# EAGLE library part SMT_64PIN_R (library Breakout_Boards)
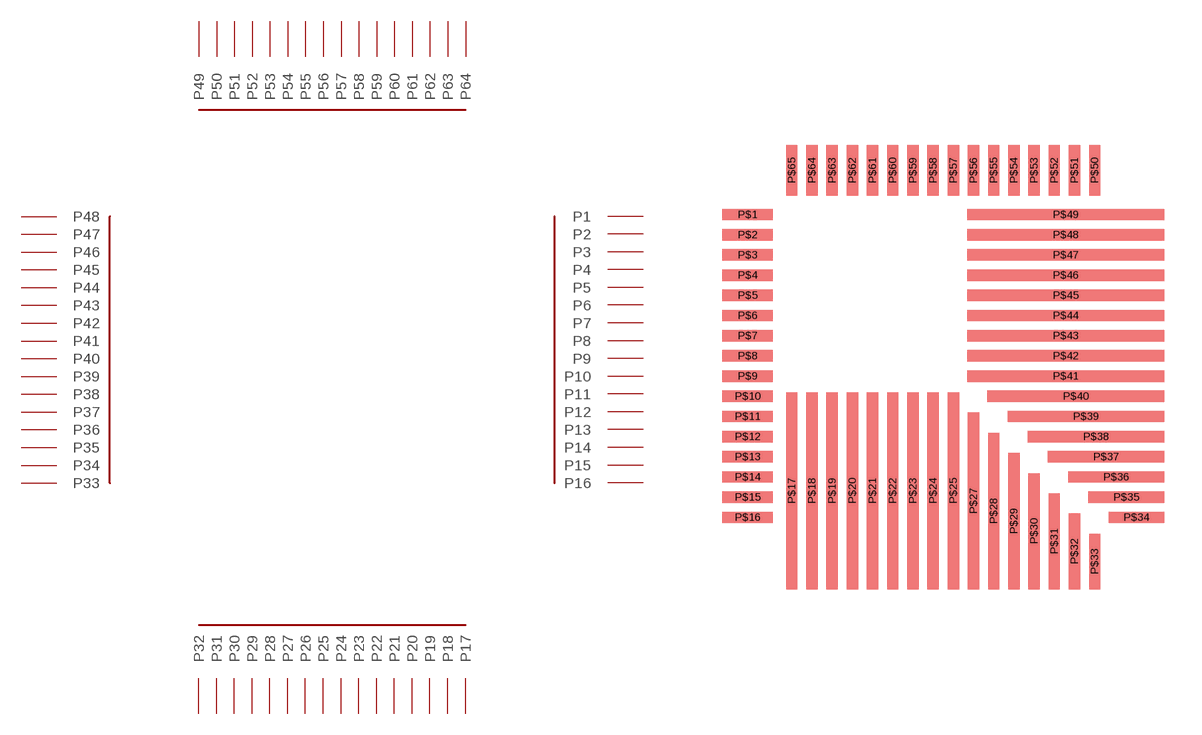
[diagram p3: symbol with the pads of TQFP_SMT_08MM; footprint TQFP_SMT_08MM]

Designator prefix -

## SMT_64PIN_R  [TQFP_SMT_08MM]
P$1  P1
P$2  P2
P$3  P3
P$4  P4
P$5  P5
P$6  P6
P$7  P7
P$8  P8
P$9  P9
P$10  P10
P$11  P11
P$12  P12
P$13  P13
P$14  P14
P$15  P15
P$16  P16
P$17  P17
P$18  P18
P$19  P19
P$20  P20
P$21  P21
P$22  P22
P$23  P23
P$24  P24
P$25  P25
P$27  P26
P$28  P27
P$29  P28
P$30  P29
P$31  P30
P$32  P31
P$33  P32
P$34  P33
P$35  P34
P$36  P35
P$37  P36
P$38  P37
P$39  P38
P$40  P39
P$41  P40
P$42  P41
P$43  P42
P$44  P43
P$45  P44
P$46  P45
P$47  P46
P$48  P47
P$49  P48
P$50  P49
P$51  P50
P$52  P51
P$53  P52
P$54  P53
P$55  P54
P$56  P55
P$57  P56
P$58  P57
P$59  P58
P$60  P59
P$61  P60
P$62  P61
P$63  P62
P$64  P63
P$65  P64

## Footprint TQFP_SMT_08MM (pad centres in mm)
smd 2 x 0.45: P$1 -7.6,6; P$2 -7.6,5.2; P$3 -7.6,4.4; P$4 -7.6,3.6; P$5 -7.6,2.8; P$6 -7.6,2; P$7 -7.6,1.2; P$8 -7.6,0.4; P$9 -7.6,-0.4; P$10 -7.6,-1.2; P$11 -7.6,-2; P$12 -7.6,-2.8; P$13 -7.6,-3.6; P$14 -7.6,-4.4; P$15 -7.6,-5.2; P$16 -7.6,-6
smd 0.45 x 7.8: P$17 -5.85,-4.95; P$18 -5.05,-4.95; P$19 -4.25,-4.95; P$20 -3.45,-4.95; P$21 -2.65,-4.95; P$22 -1.85,-4.95; P$23 -1.05,-4.95; P$24 -0.25,-4.95; P$25 0.55,-4.95
smd 0.45 x 7: P$27 1.35,-5.35
smd 0.45 x 6.2: P$28 2.15,-5.75
smd 0.45 x 5.4: P$29 2.95,-6.15
smd 0.45 x 4.6: P$30 3.75,-6.55
smd 0.45 x 3.8: P$31 4.55,-6.95
smd 0.45 x 3: P$32 5.35,-7.35
smd 0.45 x 2.2: P$33 6.15,-7.75
smd 2.2 x 0.45: P$34 7.8,-6
smd 3 x 0.45: P$35 7.4,-5.2
smd 3.8 x 0.45: P$36 7,-4.4
smd 4.6 x 0.45: P$37 6.6,-3.6
smd 5.4 x 0.45: P$38 6.2,-2.8
smd 6.2 x 0.45: P$39 5.8,-2
smd 7 x 0.45: P$40 5.4,-1.2
smd 7.8 x 0.45: P$41 5,-0.4; P$42 5,0.4; P$43 5,1.2; P$44 5,2; P$45 5,2.8; P$46 5,3.6; P$47 5,4.4; P$48 5,5.2; P$49 5,6
smd 0.45 x 2: P$50 6.15,7.75; P$51 5.35,7.75; P$52 4.55,7.75; P$53 3.75,7.75; P$54 2.95,7.75; P$55 2.15,7.75; P$56 1.35,7.75; P$57 0.55,7.75; P$58 -0.25,7.75; P$59 -1.05,7.75; P$60 -1.85,7.75; P$61 -2.65,7.75; P$62 -3.45,7.75; P$63 -4.25,7.75; P$64 -5.05,7.75; P$65 -5.85,7.75